# Altium footprint library 68710814022.PcbLib: 1 footprints
Each footprint in its own frame and in the unit in brackets; x right, y up, seen from the top. Pads: shape width x height; smd on the part's side, far side on the other; paste and mask are expansions set on the pad; w line width, h text height; cw(c..) or ccw(c..) is an arc to the next point about the centre after c.
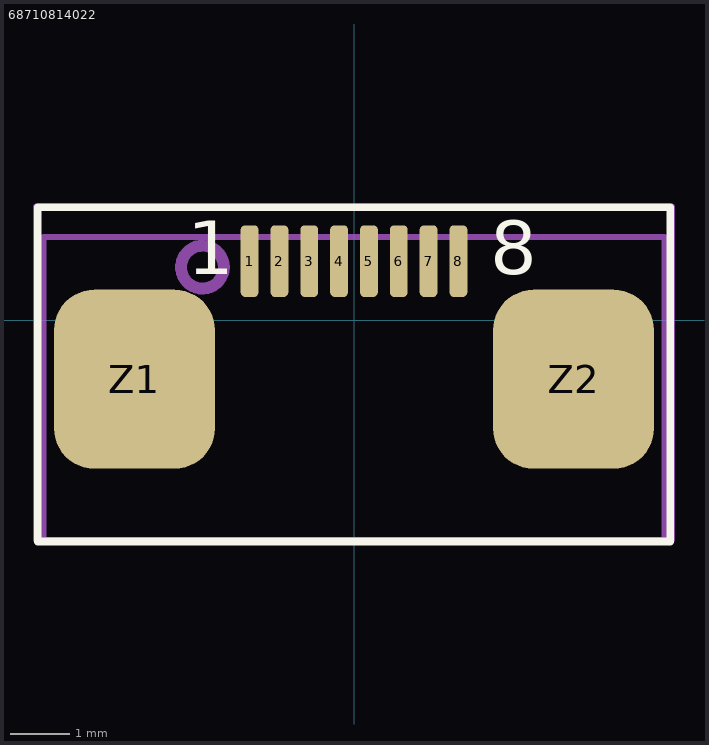
[diagram p0: the footprint, top view; thin cyan lines are the x and y axes]

## 68710814022 [mm] "08 pins"
height 2.1
pads (10):
  rrect50% 0.3x1.2 smd: 1(-1.75,0.99) 2(-1.25,0.99) 3(-0.75,0.99) 4(-0.25,0.99) 5(0.25,0.99) 6(0.75,0.99) 7(1.25,0.99) 8(1.75,0.99)
  rrect50% 2.7x3 smd: Z1(-3.68,-0.99) Z2(3.68,-0.99)
Top Overlay:
  lines w0.127: -5.3,-3.71 -5.3,1.89 5.3,1.89 5.3,-3.71 -5.3,-3.71
  text "1" at -2.794,0.771 h0.9
  text "8" at 2.286,0.771 h0.9
Top Assembly:
  circle w0.2: c-2.54,0.889 r0.359
  lines w0.1: -5.207,-3.683 -5.207,1.397 5.207,1.397 5.207,-3.683 -5.207,-3.683
Top Courtyard:
  lines w0.1: -5.334,-3.683 -5.334,1.905 5.334,1.905 5.334,-3.683 -5.334,-3.683
3D body "68710814022.stp": height 2.06, standoff -0.04, extent -5.2,-3.71 5.2,1.39